# Altium footprint library Switch.PcbLib: 28 footprints (part 2 of 2)
Each footprint in its own frame and in the unit in brackets; x right, y up, seen from the top. Pads: shape width x height; smd on the part's side, far side on the other; paste and mask are expansions set on the pad; w line width, h text height; cw(c..) or ccw(c..) is an arc to the next point about the centre after c.
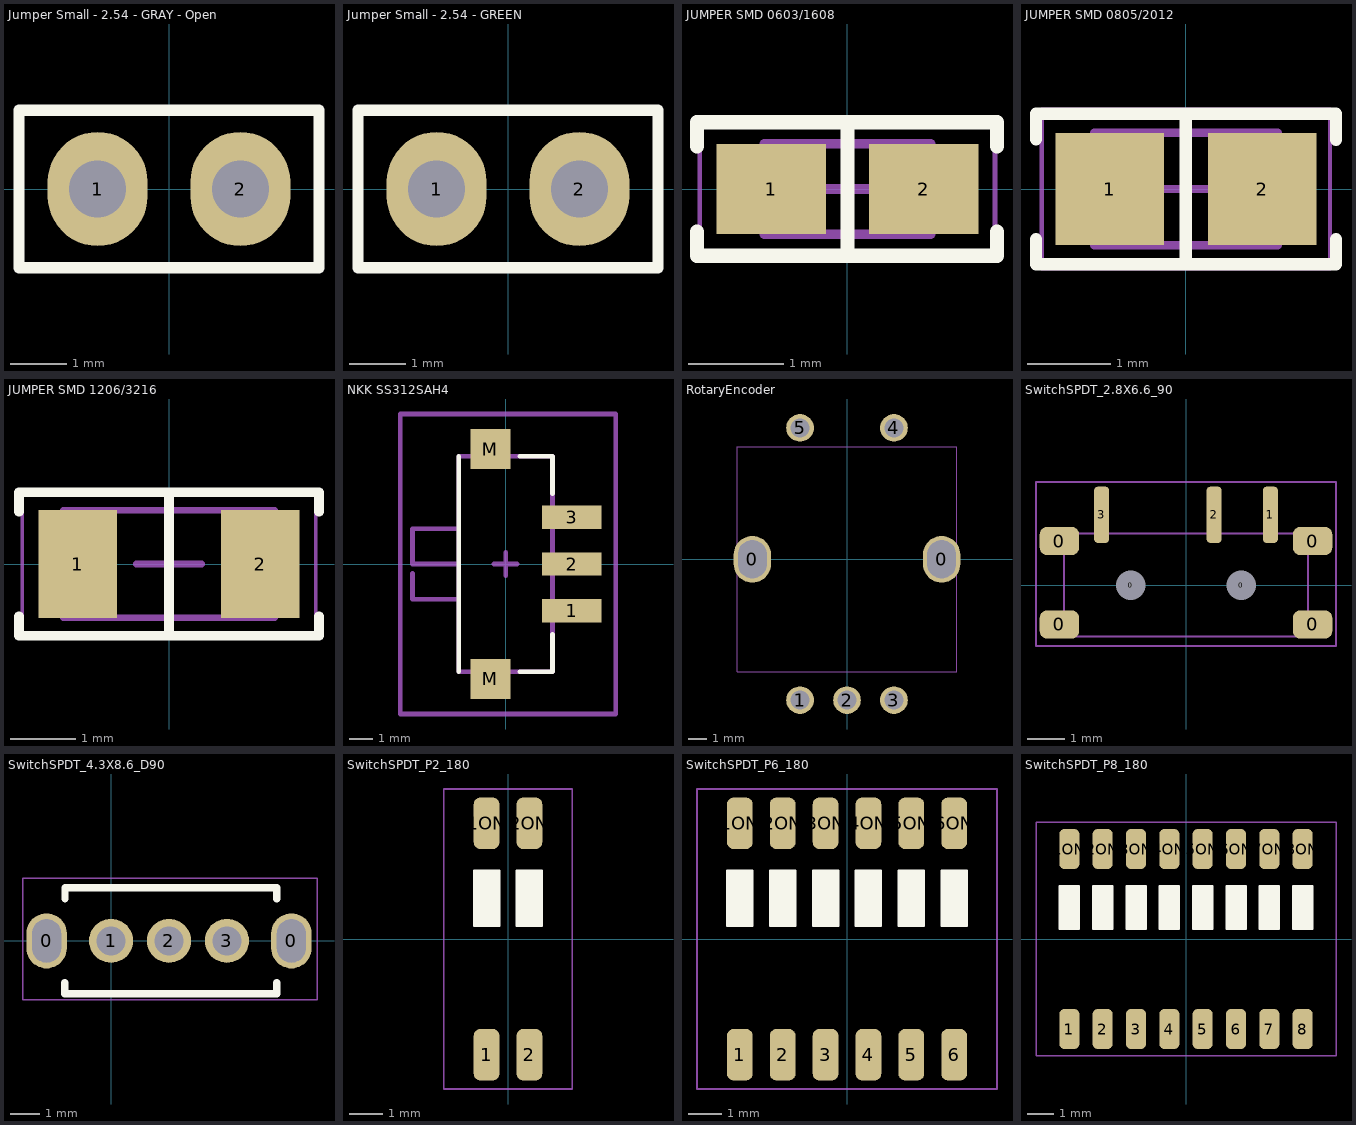
[diagram p1: the footprints below, top view; thin cyan lines are the x and y axes]

## Jumper Small - 2.54 - GRAY - Open [mil]
pads (2):
  oval 70x80 hole 40: 1(-50,0) 2(50,0)
Top Overlay:
  lines w7.87: -105.12,-55.12 105.12,-55.12 105.12,55.12 -105.12,55.12 -105.12,-55.12
3D body "jumper_akspt_g-grey.STEP": height 337.4, standoff 102.36, extent 2.75,-48.03 198.82,48.03
3D body "header02.STEP": height 330, standoff -100, extent -100,-50 100,50

## Jumper Small - 2.54 - GREEN [mil]
pads (2):
  oval 70x80 hole 40: 1(-50,0) 2(50,0)
Top Overlay:
  lines w7.87: -105.12,-55.12 -105.12,55.12 105.12,55.12 105.12,-55.12 -105.12,-55.12
3D body "header02.STEP": height 330, standoff -100, extent -100,-50 100,50
3D body: height 337.4, standoff 102.36, extent -98.03,-48.03 98.03,48.03

## JUMPER SMD 0603/1608 [mm] "Chip Resistor, 2-Leads, Body 1.60x0.80mm, IPC Medium Density"
height 0.45
pads (2):
  rect 1.15x0.95 smd: 1(-0.8,0) 2(0.8,0)
Top Overlay:
  lines w0.15: -1.58,-0.45 -1.58,-0.7 1.57,-0.7 1.57,-0.45 ; -1.58,0.45 -1.58,0.7 1.57,0.7 1.57,0.45 ; 0,-0.7 0,0.7
Mechanical 13:
  lines w0.1: -0.875,-0.475 -0.875,0.475 0.875,0.475 0.875,-0.475 -0.875,-0.475
Mechanical 15:
  lines w0.05: -1.55,-0.75 -1.55,0.75 1.55,0.75 1.55,-0.75 -1.55,-0.75
  lines w0.1: -0.475,0 0.475,0 ; 0,-0.475 0,0.475
3D body "0603 resistor.STEP": height 0.45, standoff 0, extent -0.8,-0.4 0.8,0.4

## JUMPER SMD 0805/2012 [mm] "Chip Resistor, 2-Leads, Body 2.00x1.25mm, IPC Medium Density"
height 0.7
pads (2):
  rect 1.3x1.35 smd: 1(-0.915,0) 2(0.915,0)
Top Overlay:
  lines w0.15: -1.8,-0.6 -1.8,-0.9 1.8,-0.9 1.8,-0.6 ; -1.8,0.6 -1.8,0.9 1.8,0.9 ; 0,-0.9 0,0.9 ; 1.8,0.59 1.8,0.89
Mechanical 13:
  lines w0.1: -1.1,-0.675 1.1,-0.675 1.1,0.675 -1.1,0.675 -1.1,-0.675
Mechanical 15:
  lines w0.05: -1.73,-0.95 1.73,-0.95 1.73,0.95 -1.73,0.95 -1.73,-0.95
  lines w0.1: -0.5,0 0.5,0 ; 0,-0.5 0,0.5
3D body "0805 resistor.STEP": height 0.6, standoff 0, extent -0.95,-0.625 1.05,0.625

## JUMPER SMD 1206/3216 [mm] "Chip Resistor, 2-Leads, Body 3.13x1.55mm, IPC Medium Density"
height 0.7
pads (2):
  rect 1.2x1.65 smd: 1(-1.4,0) 2(1.4,0)
Top Overlay:
  lines w0.15: -2.3,-0.8 -2.3,-1.1 2.3,-1.1 2.3,-0.8 ; -2.3,0.8 -2.3,1.1 2.3,1.1 2.3,0.8 ; 0,-1.1 0,1.1
Mechanical 13:
  lines w0.1: -1.625,-0.825 -1.625,0.825 1.625,0.825 1.625,-0.825 -1.625,-0.825
Mechanical 15:
  lines w0.05: -2.25,-1.1 -2.25,1.1 2.25,1.1 2.25,-1.1 -2.25,-1.1
  lines w0.1: -0.5,0 0.5,0 ; 0,-0.5 0,0.5
3D body "1206 resistor.STEP": height 0.6, standoff 0, extent -1.575,-0.8 1.625,0.8

## NKK SS312SAH4 [mm]
height 2.9
pads (5):
  rect 2.55x1 smd: 1(2.825,-2) 2(2.825,0) 3(2.825,2)
  rect 1.7x1.7 smd: M(-0.65,-4.9) M(-0.65,4.9)
Top Overlay:
  lines w0.2: -2,-4.6 -2,4.6 ; 0.6,-4.6 2,-4.6 2,-3 ; 0.6,4.6 2,4.6 2,3
Mechanical 1:
  lines w0.2: -3.976,-0.4 -3.976,-1.5 -2,-1.5 ; -2,0 -3.976,0 -3.976,1.5 -2,1.5 ; -2,-4.6 -2,4.6 2,4.6 2,-4.6 -2,-4.6
Mechanical 15:
  lines w0.2: -0.5,0 0.5,0 ; 0,-0.5 0,0.5 ; -4.5,-6.4 -4.5,6.4 4.7,6.4 4.7,-6.4 -4.5,-6.4
3D body "NKK SS312SAH4.STEP": height 2.9, standoff -0.15, extent -3.976,-5.245 3.416,5.245

## RotaryEncoder [mil]
pads (7):
  oval 78x98 hole 60 slot 80 at 90 deg: 0(-198.43,0) 0(198.43,0)
  round 58 hole 40: 1(-98.43,-295.28) 2(0,-295.28) 3(98.43,-295.28) 4(98.43,275.59) 5(-98.43,275.59)
Mechanical 13:
  lines w2: -230.31,-236.22 -230.31,236.22 230.31,236.22 230.31,-236.22 -230.31,-236.22

## SwitchSPDT_2.8X6.6_90 [mil]
pads (9):
  rrect50% 42x30 smd: 0(-135,-42) 0(-135,47) 0(135,-42) 0(135,47)
  round 10 hole 31.5: 0(-59.06,0) 0(59.06,0)
  rrect50% 16x60 smd: 1(90,75) 2(30,75) 3(-90,75)
Mechanical 13:
  lines w2: -130,-55 -130,55 130,55 130,-55 -130,-55
Mechanical 14:
  lines w2: -160,-65 -160,110 160,110 160,-65 -160,-65
  text ".Designator" at -40,-5 h100
3D body "User Library-MSS3_slide_switch_v2.STEP": height 55.12, standoff -19.68, extent -152.24,-110.67 150.91,86.18

## SwitchSPDT_4.3X8.6_D90 [mil]
pads (5):
  oval 55x75 hole 39.37 slot 59.06 at 90 deg: 0(-87.68,0) 0(245.16,0)
  round 60 hole 39.37: 1(0,0) 2(78.74,0) 3(157.48,0)
Top Overlay:
  lines w10: -62.83,-57 -62.83,-72 225,-72 225,-57 ; -62.68,57 -62.68,72 225.16,72 225.16,57
Mechanical 13:
  lines w2: -120,-80 -120,85 280,85 280,-80 -120,-80
Mechanical 14:
  lines w2: -120,-80 280,-80 280,85 -120,85 -120,-80
  text ".Designator" at 38.74,-20 h100
3D body "User Library-CK_Slide.STEP": height 190, standoff -105, extent -90.76,-245.62 248.24,84

## SwitchSPDT_P2_180 [mil]
pads (4):
  rrect50% 30x60 smd: 1(-25,-135) 1ON(-25,135) 2(25,-135) 2ON(25,135)
Top Overlay:
  region: -10,80 -40,80 -40,15 -10,15
  region: 40,80 10,80 10,15 40,15
  lines w2: -40,15 -10,15 -10,80 -40,80 -40,15 ; 10,15 10,80 40,80 40,15 10,15
Mechanical 14:
  lines w2: -75,-175 75,-175 75,175 -75,175 -75,-175
  text ".Designator" at -40,-20 h100
3D body "SW3DPS-DIP SWITCH HALF PITCH SMD X2-DEFAULT.STEP": height 59.37, standoff -1.65, extent -74.21,-126.88 74.21,136.9

## SwitchSPDT_P6_180 [mil]
pads (12):
  rrect50% 30x60 smd: 1(-125,-135) 1ON(-125,135) 2(-75,-135) 2ON(-75,135) 3(-25,-135) 3ON(-25,135) 4(25,-135) 4ON(25,135) 5(75,-135) 5ON(75,135) 6(125,-135) 6ON(125,135)
Top Overlay:
  region: 140,80 110,80 110,15 140,15
  region: 90,80 60,80 60,15 90,15
  region: 40,80 10,80 10,15 40,15
  region: -10,80 -40,80 -40,15 -10,15
  region: -110,80 -140,80 -140,15 -110,15
  region: -60,80 -90,80 -90,15 -60,15
  lines w2: -140,15 -110,15 -110,80 -140,80 -140,15 ; -90,15 -90,80 -60,80 -60,15 -90,15 ; -40,15 -10,15 -10,80 -40,80 -40,15 ; 10,15 10,80 40,80 40,15 10,15 ; 60,15 60,80 90,80 90,15 60,15 ; 110,15 110,80 140,80 140,15 110,15
Mechanical 14:
  lines w2: -175,-175 175,-175 175,175 -175,175 -175,-175
  text ".Designator" at -40,-20 h100
3D body "User Library-1571983-8_DIP_Switch_Tyco_Electronics.STEP": height 92.52, standoff 0, extent -172.25,-160.09 172.24,160.1

## SwitchSPDT_P8_180 [mil]
pads (16):
  rrect50% 30x60 smd: 1(-175,-135) 1ON(-175,135) 2(-125,-135) 2ON(-125,135) 3(-75,-135) 3ON(-75,135) 4(-25,-135) 4ON(-25,135) 5(25,-135) 5ON(25,135) 6(75,-135) 6ON(75,135) 7(125,-135) 7ON(125,135) 8(175,-135) 8ON(175,135)
Top Overlay:
  region: -110,80 -140,80 -140,15 -110,15
  region: -160,80 -190,80 -190,15 -160,15
  region: -60,80 -90,80 -90,15 -60,15
  region: -10,80 -40,80 -40,15 -10,15
  region: 40,80 10,80 10,15 40,15
  region: 90,80 60,80 60,15 90,15
  region: 190,80 160,80 160,15 190,15
  region: 140,80 110,80 110,15 140,15
  lines w2: -190,15 -190,80 -160,80 -160,15 -190,15 ; -140,15 -110,15 -110,80 -140,80 -140,15 ; -90,15 -90,80 -60,80 -60,15 -90,15 ; -40,15 -10,15 -10,80 -40,80 -40,15 ; 10,15 40,15 40,80 10,80 10,15 ; 60,15 90,15 90,80 60,80 60,15 ; 110,15 110,80 140,80 140,15 110,15 ; 160,15 160,80 190,80 190,15 160,15
Mechanical 14:
  lines w2: -225,-175 -225,175 225,175 225,-175 -225,-175
  text ".Designator" at -40,-20 h100
3D body "33363.stp": height 61.02, standoff 0, extent -224.2,-131.88 224.22,131.9